# Altium schematic symbol library DIODE,Gen,100V,200mA,Axial,Thru.Schlib: 1 symbol
Pins are listed as number, name and electrical type; pins without a type are passive.

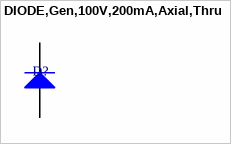
[diagram p0: symbol DIODE,Gen,100V,200mA,Axial,Thru]

## DIODE,Gen,100V,200mA,Axial,Thru
designator D?
pins: 1 K, 2 A